# EAGLE library part PINH2X05SMD/90 (library seb)
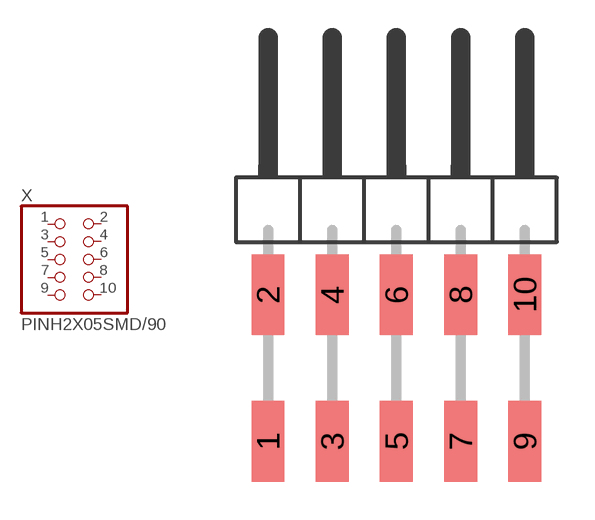
[diagram p7: symbol with the pads of 2X05SMD/90; footprint 2X05SMD/90]

Designator prefix X

## PINH2X05SMD/90  [2X05SMD/90]
1  1  pas
2  2  pas
3  3  pas
4  4  pas
5  5  pas
6  6  pas
7  7  pas
8  8  pas
9  9  pas
10  10  pas

## Footprint 2X05SMD/90 (pad centres in mm)
PIN HEADER - 2.54 90°
smd 1.3 x 3.2: 1 -1.27,-10.9; 2 -1.27,-5.1; 3 1.27,-10.9; 4 1.27,-5.1; 5 3.81,-10.9; 6 3.81,-5.1; 7 6.35,-10.9; 8 6.35,-5.1; 9 8.89,-10.9; 10 8.89,-5.1